# Altium schematic symbol library THYRISTORS.SchLib: 1 symbol
Pins are listed as number, name and electrical type; pins without a type are passive.

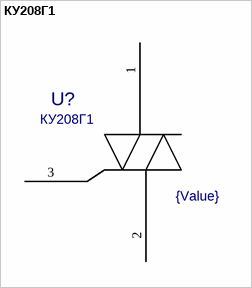
[diagram p0: symbol КУ208Г1]

## КУ208Г1
designator U?  value {Value}
footprint КУ208Г1
pins: 1, 2, 3